# Altium footprint library SAMTEC_MTMM-101-15-G-D-105.PcbLib: 1 footprints
Each footprint in its own frame and in the unit in brackets; x right, y up, seen from the top. Pads: shape width x height; smd on the part's side, far side on the other; paste and mask are expansions set on the pad; w line width, h text height; cw(c..) or ccw(c..) is an arc to the next point about the centre after c.
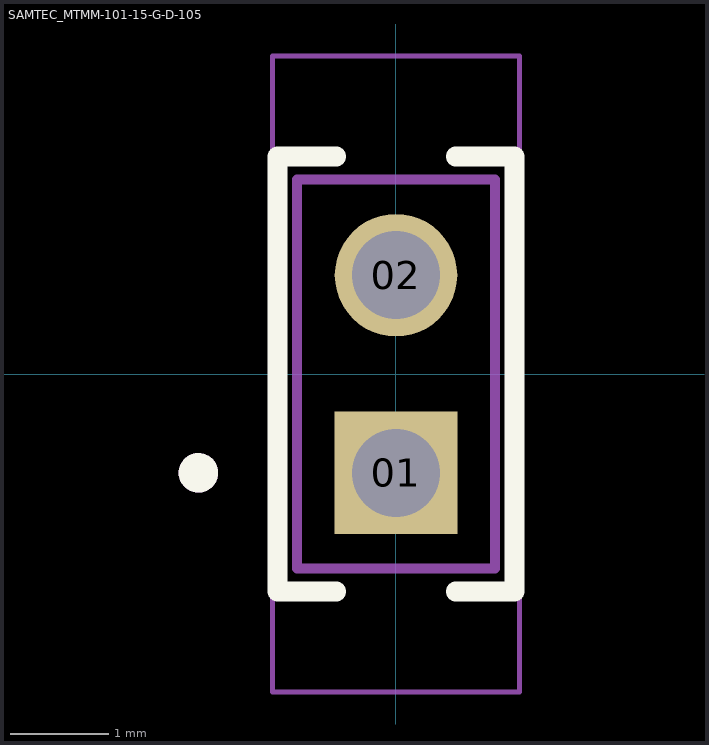
[diagram p0: the footprint, top view; thin cyan lines are the x and y axes]

## SAMTEC_MTMM-101-15-G-D-105 [mm]
pads (2):
  rect 1.24x1.24 / inner round 1.24 / far side rect 1.24x1.24 hole 0.89: 01(0,-1)
  round 1.24 hole 0.89: 02(0,1)
Top Overlay:
  circle w0.2: c-2,-1 r0.1
  lines w0.2: -0.605,-2.2 -1.2,-2.2 -1.2,2.2 -0.605,2.2 ; 0.605,-2.2 1.2,-2.2 1.2,2.2 0.605,2.2
Top Paste:
  region: 0.85,-1.85 0.378,-1.85 0.371,-1.851 0.365,-1.852 0.358,-1.853 0.351,-1.854 0.345,-1.856 0.338,-1.859 0.332,-1.861 0.326,-1.864 0.32,-1.867 0.314,-1.871 0.309,-1.875 0.303,-1.879 0.298,-1.883 0.293,-1.888 0.288,-1.893 0.284,-1.898 0.28,-1.904 0.276,-1.909 0.272,-1.915 0.269,-1.921 0.266,-1.927 0.264,-1.933 0.261,-1.94 0.259,-1.946 0.258,-1.953 0.257,-1.96 0.256,-1.966 0.255,-1.973 0.255,-1.98 0.255,-2.97 -0.255,-2.97 -0.255,-1.98 -0.255,-1.973 -0.256,-1.966 -0.257,-1.96 -0.258,-1.953 -0.259,-1.946 -0.261,-1.94 -0.264,-1.933 -0.266,-1.927 -0.269,-1.921 -0.272,-1.915 -0.276,-1.909 -0.28,-1.904 -0.284,-1.898 -0.288,-1.893 -0.293,-1.888 -0.298,-1.883 -0.303,-1.879 -0.309,-1.875 -0.314,-1.871 -0.32,-1.867 -0.326,-1.864 -0.332,-1.861 -0.338,-1.859 -0.345,-1.856 -0.351,-1.854 -0.358,-1.853 -0.365,-1.852 -0.371,-1.851 -0.378,-1.85 -0.85,-1.85 -0.85,-0.15 0.85,-0.15
  region: 0.255,1.98 0.255,1.973 0.256,1.966 0.257,1.96 0.258,1.953 0.259,1.946 0.261,1.94 0.264,1.933 0.266,1.927 0.269,1.921 0.272,1.915 0.276,1.909 0.28,1.904 0.284,1.898 0.288,1.893 0.293,1.888 0.298,1.883 0.303,1.879 0.309,1.875 0.314,1.871 0.32,1.867 0.326,1.864 0.332,1.861 0.338,1.859 0.345,1.856 0.351,1.854 0.358,1.853 0.365,1.852 0.371,1.851 0.378,1.85 0.85,1.85 0.85,0.15 -0.85,0.15 -0.85,1.85 -0.378,1.85 -0.371,1.851 -0.365,1.852 -0.358,1.853 -0.351,1.854 -0.345,1.856 -0.338,1.859 -0.332,1.861 -0.326,1.864 -0.32,1.867 -0.314,1.871 -0.309,1.875 -0.303,1.879 -0.298,1.883 -0.293,1.888 -0.288,1.893 -0.284,1.898 -0.28,1.904 -0.276,1.909 -0.272,1.915 -0.269,1.921 -0.266,1.927 -0.264,1.933 -0.261,1.94 -0.259,1.946 -0.258,1.953 -0.257,1.96 -0.256,1.966 -0.255,1.973 -0.255,1.98 -0.255,2.97 0.255,2.97
Mechanical 13:
  circle w0.2: c-2,-1 r0.1
  lines w0.1: -1,-1.97 -1,1.97 1,1.97 1,-1.97 -1,-1.97
Mechanical 15:
  lines w0.05: -1.25,-3.22 -1.25,3.22 1.25,3.22 1.25,-3.22 -1.25,-3.22